# EAGLE library part MCP41HVX1_BREAKOUT (library Clock components)
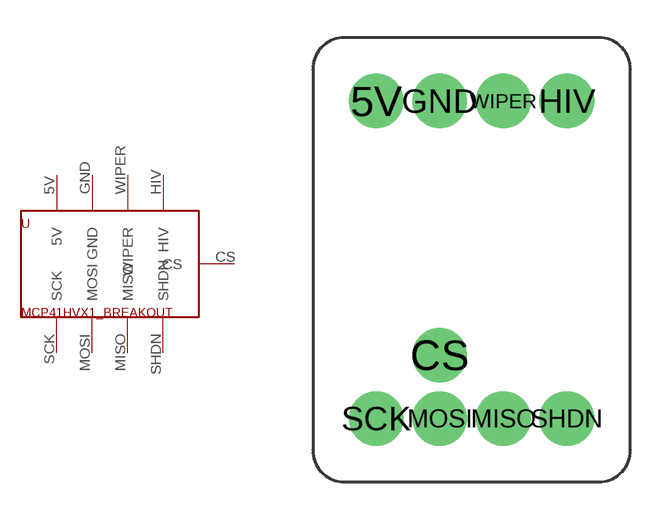
[diagram p5: symbol with the pads of MCP41HVX1_BREAKOUT; footprint MCP41HVX1_BREAKOUT]

Designator prefix -

## MCP41HVX1_BREAKOUT  [MCP41HVX1_BREAKOUT]
5V  5V
CS  CS
GND  GND
HIV  HIV
MISO  MISO
MOSI  MOSI
SCK  SCK
SHDN  SHDN
WIPER  WIPER

## Footprint MCP41HVX1_BREAKOUT (pad centres in mm)
drill 1 pad 2.184: 5V 2.54,15.24; CS 5.08,5.08; GND 5.08,15.24; HIV 10.16,15.24; MISO 7.62,2.54; MOSI 5.08,2.54; SCK 2.54,2.54; SHDN 10.16,2.54; WIPER 7.62,15.24